# Altium footprint library SOT523.PcbLib: 1 footprints
Each footprint in its own frame and in the unit in brackets; x right, y up, seen from the top. Pads: shape width x height; smd on the part's side, far side on the other; paste and mask are expansions set on the pad; w line width, h text height; cw(c..) or ccw(c..) is an arc to the next point about the centre after c.
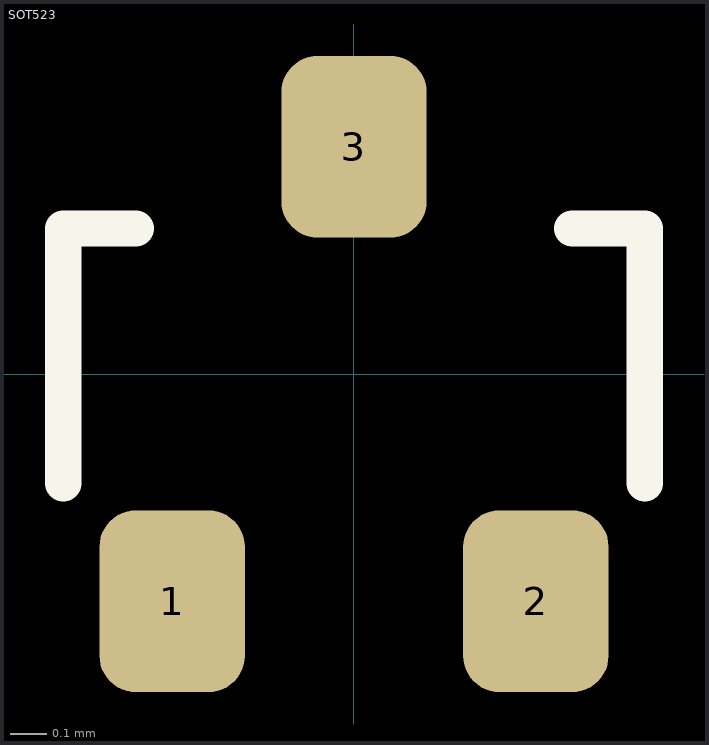
[diagram p0: the footprint, top view; thin cyan lines are the x and y axes]

## SOT523 [mm] "SOT-323/SC-70; 3 Leads; Body 2.2 x 2.2 mm, inc. leads (LxW max)"
height 1
pads (3):
  rrect50% 0.4x0.5 smd: 1(-0.5,-0.625) 2(0.5,-0.625) 3(0,0.625)
Top Overlay:
  lines w0.1: -0.8,-0.3 -0.8,0.4 -0.6,0.4 ; 0.6,0.4 0.8,0.4 0.8,-0.3
3D body "SOT523.STEP": height 0.8, standoff 0, extent -0.8,-0.8 0.8,0.8